# EAGLE library part TPS62122 (library powerfilm)
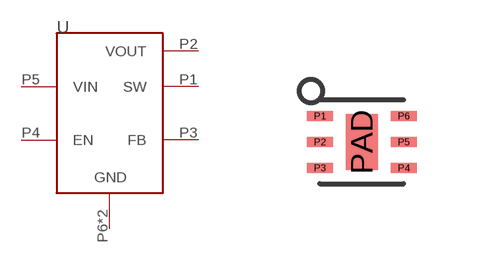
[diagram p2: symbol with the pads of WDFN-6; footprint WDFN-6]

Designator prefix U

## TPS62122 (DIGIKEY: 296-27695-1-ND)  [WDFN-6]
P1  SW
P2  VOUT
P3  FB
P4  EN
P5  VIN
P6  GND
PAD  GND

## Footprint WDFN-6 (pad centres in mm)
smd 0.65 x 0.25: P1 -1.05,0.65; P2 -1.05,0; P3 -1.05,-0.65; P4 1.05,-0.65; P5 1.05,0; P6 1.05,0.65
smd 0.8 x 1.4: PAD 0,0